# Altium footprint library footprints.PCBLIB: 172 footprints (part 9 of 11)
Each footprint in its own frame and in the unit in brackets; x right, y up, seen from the top. Pads: shape width x height; smd on the part's side, far side on the other; paste and mask are expansions set on the pad; w line width, h text height; cw(c..) or ccw(c..) is an arc to the next point about the centre after c.
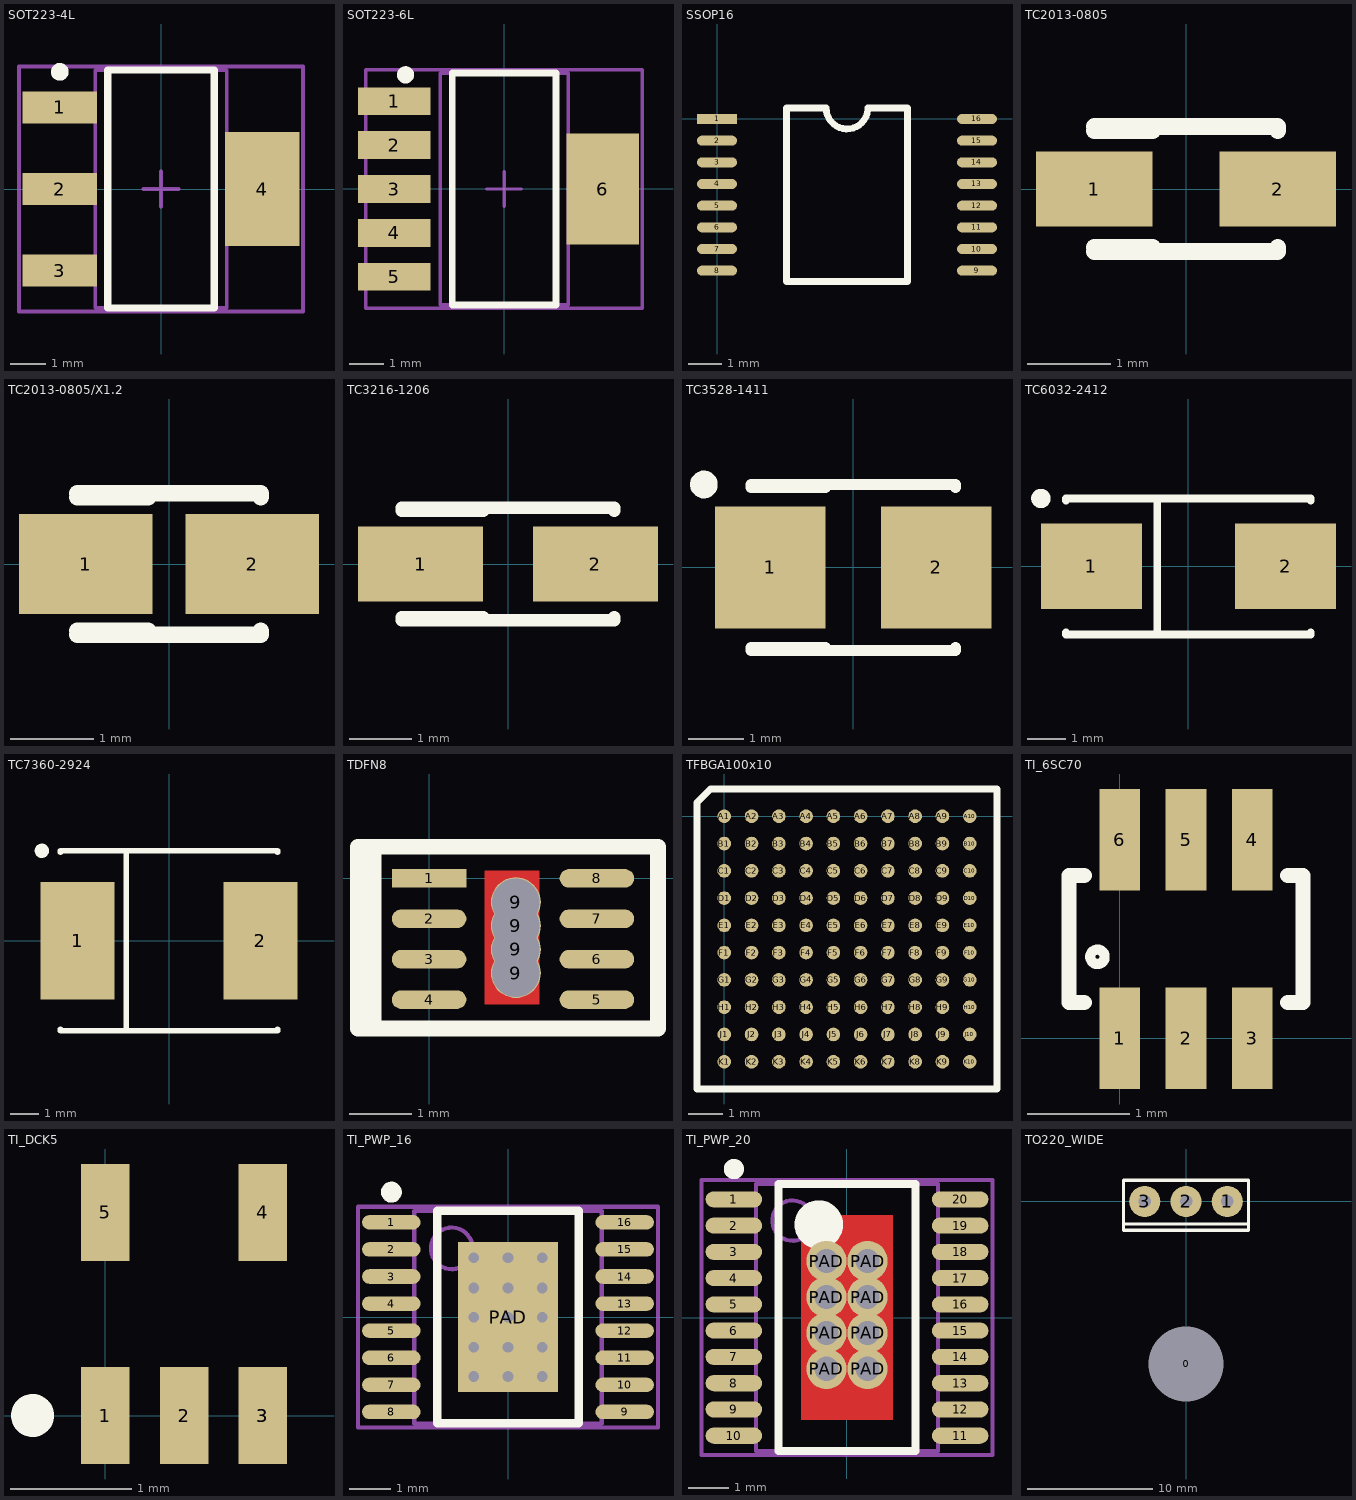
[diagram p8: the footprints below, top view; thin cyan lines are the x and y axes]

## SOT223-4L [mm] "SOT223, 4-Leads, Body 6.5x3.5mm, Pitch 2.3mm, Lead Span 7mm, IPC High Density"
height 1.8
pads (4):
  rect 2.1x0.9 smd: 1(-2.85,2.3) 2(-2.85,0) 3(-2.85,-2.3)
  rect 2.1x3.2 smd: 4(2.85,0)
Top Overlay:
  circle w0.25: c-2.85,3.3 r0.125
  lines w0.2: -1.5,-3.35 -1.5,3.35 1.5,3.35 1.5,-3.35 -1.5,-3.35
Mechanical 13:
  lines w0.1: -1.85,-3.35 -1.85,3.35 1.85,3.35 1.85,-3.35 -1.85,-3.35
Mechanical 15:
  lines w0.1: -0.5,0 0.5,0 ; 0,-0.5 0,0.5 ; -4,-3.45 -4,3.45 4,3.45 4,-3.45 -4,-3.45
3D body: height 1.8, standoff 0, extent -1.85,-3.35 1.85,3.35

## SOT223-6L [mm] "SOT223, 6-Leads, Body 6.5x3.5mm, Pitch 2.3mm, Lead Span 7mm, IPC High Density"
height 1.8
pads (6):
  rect 2.1x0.8 smd: 1(-3.175,2.54) 2(-3.175,1.27) 3(-3.175,0) 4(-3.175,-1.27) 5(-3.175,-2.54)
  rect 2.1x3.2 smd: 6(2.85,0)
Top Overlay:
  circle w0.25: c-2.85,3.3 r0.125
  lines w0.2: -1.5,-3.35 -1.5,3.35 1.5,3.35 1.5,-3.35 -1.5,-3.35
Mechanical 13:
  lines w0.1: -1.85,-3.35 -1.85,3.35 1.85,3.35 1.85,-3.35 -1.85,-3.35
Mechanical 15:
  lines w0.1: -0.5,0 0.5,0 ; 0,-0.5 0,0.5 ; -4,-3.45 -4,3.45 4,3.45 4,-3.45 -4,-3.45
3D body: height 1.8, standoff 0, extent -1.85,-3.35 1.85,3.35

## SSOP16 [mm]
pads (16):
  rect 1.2x0.3 smd: 1(0,0)
  oval 1.2x0.3 smd: 2(0,-0.65) 3(0,-1.3) 4(0,-1.95) 5(0,-2.6) 6(0,-3.25) 7(0,-3.9) 8(0,-4.55) 9(7.8,-4.55) 10(7.8,-3.9) 11(7.8,-3.25) 12(7.8,-2.6) 13(7.8,-1.95) 14(7.8,-1.3) 15(7.8,-0.65) 16(7.8,0)
Top Overlay:
  lines w0.2: 3.275,0.325 ccw(c3.9,0.325) 4.523,0.273 ; 3.277,0.33 2.083,0.33 2.085,-4.875 5.715,-4.875 5.715,0.33 4.521,0.33

## TC2013-0805 [mm] "Capacitor, SM Tantalum; Body 2.0 x 1.3 mm (LxW typ)"
height 1.2
pads (2):
  rect 1.4x0.9 smd: 1(-1.1,0) 2(1.1,0)
Top Overlay:
  lines w0.2: -1.1,-0.75 1.1,-0.75 1.1,-0.7 ; -1.1,-0.7 -0.4,-0.7 ; -1.1,0.7 -0.4,0.7 ; -1.1,0.75 1.1,0.75 1.1,0.7

## TC2013-0805/X1.2 [mm] "Capacitor, SM Tantalum; Body 2.0 x 1.25 mm (LxW typ)"
height 1.2
pads (2):
  rect 1.6x1.2 smd: 1(-1,0) 2(1,0)
Top Overlay:
  lines w0.2: -1.1,-0.85 1.1,-0.85 1.1,-0.8 ; -1.1,-0.8 -0.25,-0.8 ; -1.1,0.8 -0.25,0.8 ; -1.1,0.85 1.1,0.85 1.1,0.8

## TC3216-1206 [mm] "Capacitor, SM Tantalum; Body 3.2 x 1.6 mm (LxW typ)"
height 2.2
pads (2):
  rect 2x1.2 smd: 1(-1.4,0) 2(1.4,0)
Top Overlay:
  lines w0.2: -1.7,-0.9 1.7,-0.9 1.7,-0.85 ; -1.7,-0.85 -0.4,-0.85 ; -1.7,0.85 -0.4,0.85 ; -1.7,0.9 1.7,0.9 1.7,0.85

## TC3528-1411 [mm] "Capacitor, SM Tantalum; Body 3.5 x 2.8 mm (LxW typ)"
height 2.5
pads (2):
  rect 2x2.2 smd: 1(-1.5,0) 2(1.5,0)
Top Overlay:
  circle w0.25: c-2.7,1.5 r0.125
  lines w0.2: -1.85,-1.5 1.85,-1.5 1.85,-1.45 ; -1.85,-1.45 -0.5,-1.45 ; -1.85,1.45 -0.5,1.45 ; -1.85,1.5 1.85,1.5 1.85,1.45

## TC6032-2412 [mm] "Capacitor, SM Tantalum; Body 6.0 x 3.2 mm (LxW typ)"
height 3.4
pads (2):
  rect 2.6x2.2 smd: 1(-2.5,0) 2(2.5,0)
Top Overlay:
  circle w0.25: c-3.8,1.75 r0.125
  lines w0.2: -3.15,-1.7 -3.15,-1.75 3.15,-1.75 3.15,-1.7 ; -3.15,1.7 -3.15,1.75 3.15,1.75 3.15,1.7 ; -0.8,-1.75 -0.8,1.75

## TC7360-2924 [mm] "Capacitor, SM Tantalum; Body 7.3 x 6.0 mm (LxW typ)"
height 3.8
pads (2):
  rect 2.6x4.1 smd: 1(-3.2,0) 2(3.2,0)
Top Overlay:
  circle w0.25: c-4.45,3.15 r0.125
  lines w0.2: -3.8,-3.1 -3.8,-3.15 3.8,-3.15 3.8,-3.1 ; -3.8,3.1 -3.8,3.15 3.8,3.15 3.8,3.1 ; -1.5,-3.15 -1.5,3.15

## TDFN8 [mm]
pads (12):
  rect 1.2x0.3 smd: 1(0,0)
  oval 1.2x0.3 smd: 2(0,-0.65) 3(0,-1.3) 4(0,-1.95) 5(2.7,-1.95) 6(2.7,-1.3) 7(2.7,-0.65) 8(2.7,0)
  round 0.8 hole 0.762: 9(1.397,-1.524) 9(1.397,-1.143) 9(1.397,-0.762) 9(1.397,-0.381)
Top Layer:
  rectangle: 0.889,-2.032 1.778,0.127
Top Overlay:
  lines w0.254: -0.889,-2.413 -0.889,0.508 ; -1.143,-2.413 -1.143,0.508 3.683,0.508 3.683,-2.413 -1.143,-2.413

## TFBGA100x10 [mm]
pads (100):
  round 0.4 smd: A1(0,0) A2(0.8,0) A3(1.6,0) A4(2.4,0) A5(3.2,0) A6(4,0) A7(4.8,0) A8(5.6,0) A9(6.4,0) A10(7.2,0) B1(0,-0.8) B2(0.8,-0.8) B3(1.6,-0.8) B4(2.4,-0.8) B5(3.2,-0.8) B6(4,-0.8) B7(4.8,-0.8) B8(5.6,-0.8) B9(6.4,-0.8) B10(7.2,-0.8) C1(0,-1.6) C2(0.8,-1.6) C3(1.6,-1.6) C4(2.4,-1.6) C5(3.2,-1.6) C6(4,-1.6) C7(4.8,-1.6) C8(5.6,-1.6) C9(6.4,-1.6) C10(7.2,-1.6) D1(0,-2.4) D2(0.8,-2.4) D3(1.6,-2.4) D4(2.4,-2.4) D5(3.2,-2.4) D6(4,-2.4) D7(4.8,-2.4) D8(5.6,-2.4) D9(6.4,-2.4) D10(7.2,-2.4) E1(0,-3.2) E2(0.8,-3.2) E3(1.6,-3.2) E4(2.4,-3.2) E5(3.2,-3.2) E6(4,-3.2) E7(4.8,-3.2) E8(5.6,-3.2) E9(6.4,-3.2) E10(7.2,-3.2) F1(0,-4) F2(0.8,-4) F3(1.6,-4) F4(2.4,-4) F5(3.2,-4) F6(4,-4) F7(4.8,-4) F8(5.6,-4) F9(6.4,-4) F10(7.2,-4) G1(0,-4.8) G2(0.8,-4.8) G3(1.6,-4.8) G4(2.4,-4.8) G5(3.2,-4.8) G6(4,-4.8) G7(4.8,-4.8) G8(5.6,-4.8) G9(6.4,-4.8) G10(7.2,-4.8) H1(0,-5.6) H2(0.8,-5.6) H3(1.6,-5.6) H4(2.4,-5.6) H5(3.2,-5.6) H6(4,-5.6) H7(4.8,-5.6) H8(5.6,-5.6) H9(6.4,-5.6) H10(7.2,-5.6) J1(0,-6.4) J2(0.8,-6.4) J3(1.6,-6.4) J4(2.4,-6.4) J5(3.2,-6.4) J6(4,-6.4) J7(4.8,-6.4) J8(5.6,-6.4) J9(6.4,-6.4) J10(7.2,-6.4) K1(0,-7.2) K2(0.8,-7.2) K3(1.6,-7.2) K4(2.4,-7.2) K5(3.2,-7.2) K6(4,-7.2) K7(4.8,-7.2) K8(5.6,-7.2) K9(6.4,-7.2) K10(7.2,-7.2)
Top Overlay:
  lines w0.2: -0.8,-8 8,-8 8,0.8 -0.4,0.8 -0.8,0.4 -0.8,-8

## TI_6SC70 [mm]
pads (6):
  rect 0.4x1 smd: 1(0,0) 2(0.65,0) 3(1.3,0) 4(1.3,1.95) 5(0.65,1.95) 6(0,1.95)
Top Overlay:
  circle w0.1: c-0.221,0.8 r0.071
  lines w0.15: -0.35,0.35 -0.5,0.35 -0.5,1.45 -0.5,1.6 -0.35,1.6 ; 1.65,0.35 1.8,0.35 1.8,0.5 1.8,1.6 1.65,1.6

## TI_DCK5 [mm]
pads (6):
  rect 0.4x0.8 smd: 1(0,0) 2(0.65,0) 3(1.3,0) 3(1.3,0) 4(1.3,1.675) 5(0,1.675)
Top Overlay:
  circle w0.254: c-0.6,0 r0.05

## TI_PWP_16 [mm] "SOP, 16-Leads, Body 5x4.4mm, Pitch 0.65mm, IPC High Density"
height 2
pads (17):
  oval 1.4x0.35 smd: 1(-2.8,2.275) 2(-2.8,1.625) 3(-2.8,0.975) 4(-2.8,0.325) 5(-2.8,-0.325) 6(-2.8,-0.975) 7(-2.8,-1.625) 8(-2.8,-2.275) 9(2.8,-2.275) 10(2.8,-1.625) 11(2.8,-0.975) 12(2.8,-0.325) 13(2.8,0.325) 14(2.8,0.975) 15(2.8,1.625) 16(2.8,2.275)
  rect 2.4x3.6 smd paste-10: PAD(0,0)
via -0.825,1.425 diameter 0.61 hole 0.254
via 0,1.425 diameter 0.61 hole 0.254
via 0.825,1.425 diameter 0.61 hole 0.254
via 0.825,0 diameter 0.61 hole 0.254
via 0,0 diameter 0.61 hole 0.254
via -0.825,0 diameter 0.61 hole 0.254
via 0.825,-1.425 diameter 0.61 hole 0.254
via 0,-1.425 diameter 0.61 hole 0.254
via -0.825,-1.425 diameter 0.61 hole 0.254
via 0.825,-0.725 diameter 0.61 hole 0.254
via 0,-0.725 diameter 0.61 hole 0.254
via -0.825,-0.725 diameter 0.61 hole 0.254
via 0.825,0.7 diameter 0.61 hole 0.254
via 0,0.7 diameter 0.61 hole 0.254
via -0.825,0.7 diameter 0.61 hole 0.254
Top Overlay:
  circle w0.25: c-2.8,3 r0.125
  lines w0.2: -1.7,-2.55 1.7,-2.55 1.7,2.55 -1.7,2.55 -1.7,-2.55
Top Paste:
  rectangle: -1.16,-1.21 1.15,1.25
Top Solder:
  rectangle: -1.225,-1.825 1.225,1.8
Mechanical 13:
  circle w0.1: c-1.35,1.65 r0.5
  lines w0.1: -2.25,-2.55 2.25,-2.55 2.25,2.55 -2.25,2.55 -2.25,-2.55
Mechanical 15:
  lines w0.1: -3.6,-2.65 3.6,-2.65 3.6,2.65 -3.6,2.65 -3.6,-2.65

## TI_PWP_20 [mm] "SOP, 20-Leads, Body 6.5x4.4mm, Pitch 0.65mm, IPC High Density"
height 1.45
pads (28):
  oval 1.4x0.4 smd: 1(-2.8,2.925) 2(-2.8,2.275) 3(-2.8,1.625) 4(-2.8,0.975) 5(-2.8,0.325) 6(-2.8,-0.325) 7(-2.8,-0.975) 8(-2.8,-1.625) 9(-2.8,-2.275) 10(-2.8,-2.925) 11(2.8,-2.925) 12(2.8,-2.275) 13(2.8,-1.625) 14(2.8,-0.975) 15(2.8,-0.325) 16(2.8,0.325) 17(2.8,0.975) 18(2.8,1.625) 19(2.8,2.275) 20(2.8,2.925)
  round 1 hole 0.6: PAD(-0.508,-1.27) PAD(-0.508,-0.381) PAD(-0.508,0.508) PAD(-0.508,1.397) PAD(0.508,-1.27) PAD(0.508,-0.381) PAD(0.508,0.508) PAD(0.508,1.397)
Top Layer:
  rectangle: -1.143,-2.54 1.143,2.54
Top Overlay:
  circle w0.25: c-2.8,3.675 r0.125
  circle w0.6: c-0.7,2.3 r0.3
  lines w0.2: -1.7,-3.3 -1.7,3.3 1.7,3.3 1.7,-3.3 -1.7,-3.3
Mechanical 13:
  circle w0.1: c-1.35,2.4 r0.5
  lines w0.1: -2.25,-3.3 -2.25,3.3 2.25,3.3 2.25,-3.3 -2.25,-3.3
Mechanical 15:
  lines w0.1: -0.5,0 0.5,0 ; 0,-0.5 0,0.5 ; -3.6,-3.4 -3.6,3.4 3.6,3.4 3.6,-3.4 -3.6,-3.4
3D body: height 1.45, standoff 0, extent -2.25,-3.3 2.25,3.3

## TO220_WIDE [mm]
pads (4):
  round 1 hole 6: 0(0,-13)
  round 2.5 hole 1: 1(3.3,0) 2(0,0) 3(-3.3,0)
Top Overlay:
  lines w0.254: -5,1.7 5,1.7 5,-1.8 ; -5,1.7 -5,-1.8 5,-1.8 ; -5,1.7 -5,-2.3 5,-2.3 5,-1.8
Bottom Overlay:
  circle w0.254: c0,-13 r4.243
  lines w1: -6,-21 6,-21 6,3 -6,3 -6,-21